# Altium footprint library CSTCE-V_1.PcbLib: 1 footprints
Each footprint in its own frame and in the unit in brackets; x right, y up, seen from the top. Pads: shape width x height; smd on the part's side, far side on the other; paste and mask are expansions set on the pad; w line width, h text height; cw(c..) or ccw(c..) is an arc to the next point about the centre after c.
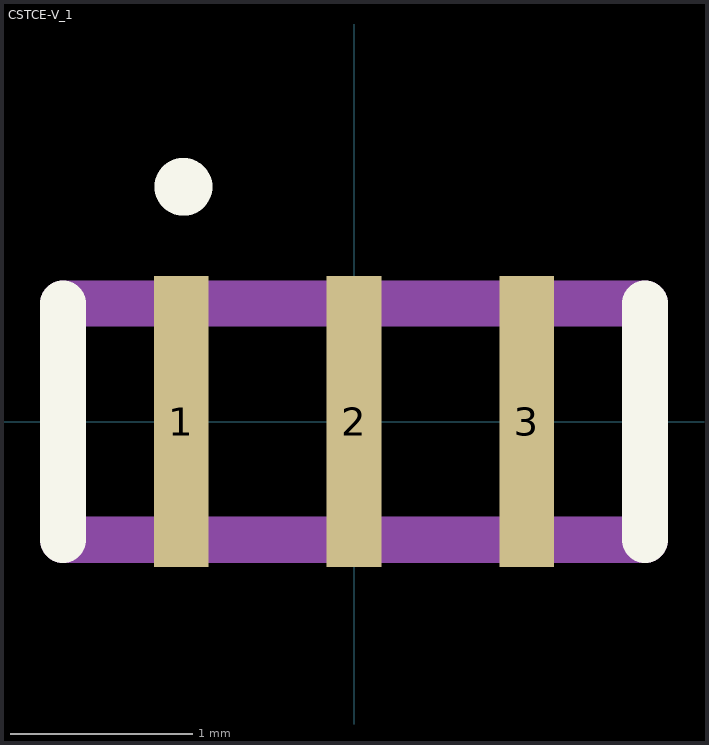
[diagram p0: the footprint, top view; thin cyan lines are the x and y axes]

## CSTCE-V_1 [mm]
pads (3):
  rect 0.3x1.6 smd: 1(-0.95,0) 2(0,0) 3(0.95,0)
L26-Silk Screen Top (Multiple PADS layers...):
  circle w0.254: c-0.938,1.291 r0.032
  lines w0.254: -1.6,-0.65 -1.6,0.65 ; 1.6,-0.65 1.6,0.65
L15 (Multiple PADS layers...):
  lines w0.254: -1.6,-0.65 -1.6,0.65 1.6,0.65 1.6,-0.65 -1.6,-0.65
3D body "ceramic-resonator-smd-3mm2x1mm3-muratea-cstce.stp": height 0.7, standoff 0, extent -1.6,-0.65 1.6,0.65